# EAGLE library part 2X08_SIDE (library _mtvl.connectors)
2x08 SIDE CONNECTOR
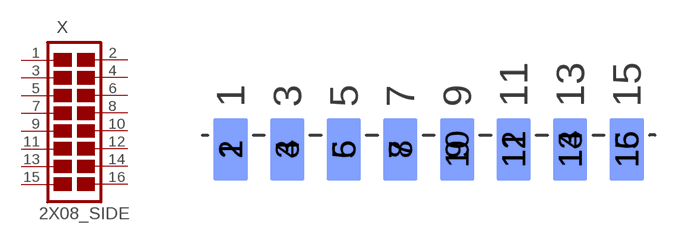
[diagram p44: symbol with the pads of 2X08_SIDE; footprint 2X08_SIDE]

Designator prefix X

## 2X08_SIDE  [2X08_SIDE]
1  1  pas
2  2  pas
3  3  pas
4  4  pas
5  5  pas
6  6  pas
7  7  pas
8  8  pas
9  9  pas
10  10  pas
11  11  pas
12  12  pas
13  13  pas
14  14  pas
15  15  pas
16  16  pas

## Footprint 2X08_SIDE (pad centres in mm)
2x08 PCB SIDE CONNECTOR
smd 1.524 x 2.794: 1 -8.89,-0.635; 3 -6.35,-0.635; 5 -3.81,-0.635; 7 -1.27,-0.635; 9 1.27,-0.635; 11 3.81,-0.635; 13 6.35,-0.635; 15 8.89,-0.635
smd 1.524 x 2.794 bottom: 2 -8.89,-0.635; 4 -6.35,-0.635; 6 -3.81,-0.635; 8 -1.27,-0.635; 10 1.27,-0.635; 12 3.81,-0.635; 14 6.35,-0.635; 16 8.89,-0.635